# EAGLE library part DS3231MZ__DS3231MZ+ (library DS3231MZ)
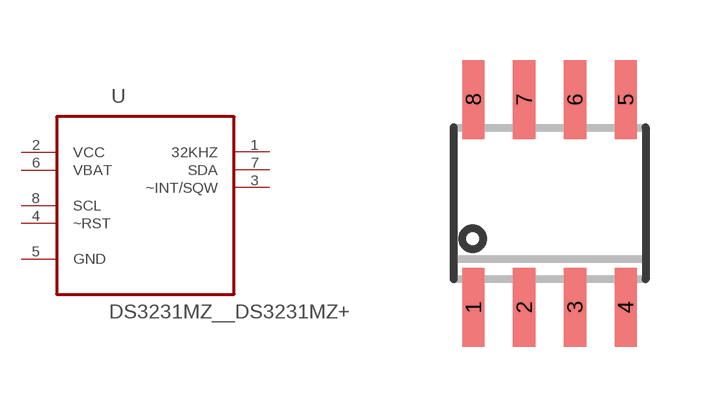
[diagram p0: symbol with the pads of DS3231MZ__SOIC8_150MIL; footprint DS3231MZ__SOIC8_150MIL]

Designator prefix U

## DS3231MZ__DS3231MZ+ (AVAILABILITY: Good; DESCRIPTION: Real Time Clock Serial-I2C +/-5ppm SOIC8; MF: Maxim Integrated; MP: DS3231MZ+; PACKAGE: SOIC-8 Maxim Integrated; PRICE: 5.30 USD)  [DS3231MZ__SOIC8_150MIL]
1  32KHZ  out
2  VCC  pwr
3  ~INT/SQW  out
4  ~RST
5  GND  pas
6  VBAT  pwr
7  SDA
8  SCL  in

## Footprint DS3231MZ__SOIC8_150MIL (pad centres in mm)
smd 0.559 x 1.981: 1 -1.905,-2.6; 2 -0.635,-2.6; 3 0.635,-2.6; 4 1.905,-2.6; 5 1.905,2.6; 6 0.635,2.6; 7 -0.635,2.6; 8 -1.905,2.6